# EAGLE library part MPU-60X0 (library IC & Transistor)
IMU MPU60x0
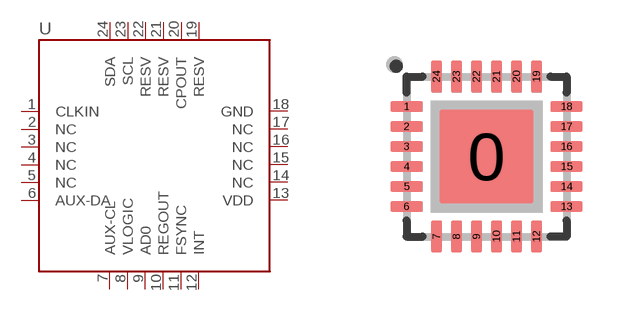
[diagram p20: symbol with the pads of QFN-24; footprint QFN-24]

Designator prefix U

## MPU-60X0_(MPU-6050) (CYTRON-PC: S-MPU60X0; DESC: IMU MPU6050; MPN: MPU-6050)  [QFN-24]
1  CLKIN
2  NC
3  NC
4  NC
5  NC
6  AUX-DA
7  AUX-CL
8  VLOGIC
9  AD0
10  REGOUT
11  FSYNC
12  INT
13  VDD
14  NC
15  NC
16  NC
17  NC
18  GND
19  RESV
20  CPOUT
21  RESV
22  RESV
23  SCL
24  SDA

## Footprint QFN-24 (pad centres in mm)
Quad Flat No-leads Package Size: 4.0mm x 4.0mm Pitch: 0.5mm Created by: Wai Weng
smd 2.35 x 2.35: 0 0,0
smd 0.8 x 0.28: 1 -2,1.25; 2 -2,0.75; 3 -2,0.25; 4 -2,-0.25; 5 -2,-0.75; 6 -2,-1.25; 13 2,-1.25; 14 2,-0.75; 15 2,-0.25; 16 2,0.25; 17 2,0.75; 18 2,1.25
smd 0.28 x 0.8: 7 -1.25,-2; 8 -0.75,-2; 9 -0.25,-2; 10 0.25,-2; 11 0.75,-2; 12 1.25,-2; 19 1.25,2; 20 0.75,2; 21 0.25,2; 22 -0.25,2; 23 -0.75,2; 24 -1.25,2